# Altium footprint library NRF_PCB.PcbLib: 17 footprints (part 2 of 2)
Each footprint in its own frame and in the unit in brackets; x right, y up, seen from the top. Pads: shape width x height; smd on the part's side, far side on the other; paste and mask are expansions set on the pad; w line width, h text height; cw(c..) or ccw(c..) is an arc to the next point about the centre after c.
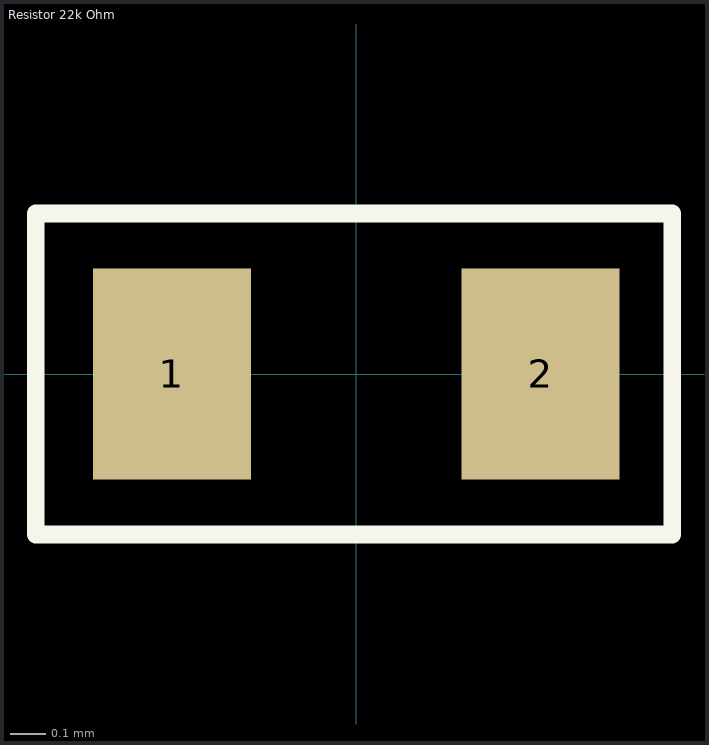
[diagram p1: the footprint, top view; thin cyan lines are the x and y axes]

## Resistor 22k Ohm [mm]
pads (2):
  rect 0.45x0.6 smd: 1(-0.525,0) 2(0.525,0)
Top Overlay:
  lines w0.05: -0.913,-0.457 0.9,-0.457 0.9,0.457 -0.913,0.457 -0.913,-0.457
3D body "RES_0402.step": height 0.36, standoff 0, extent -0.546,-0.279 0.546,0.279